# EAGLE library part LT1616 (library Neel)
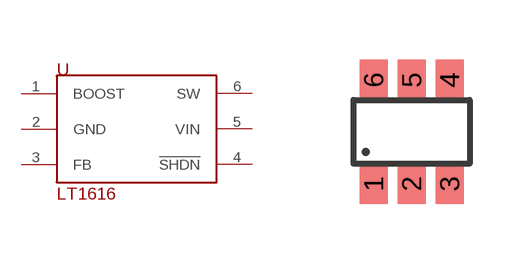
[diagram p12: symbol with the pads of SOT23-6; footprint SOT23-6]

Designator prefix -

## LT1616  [SOT23-6]
1  BOOST
2  GND
3  FB
4  !SHDN
5  VIN
6  SW

## Footprint SOT23-6 (pad centres in mm)
smd 0.7 x 1: 1 -0.95,-1.3; 2 0,-1.3; 3 0.95,-1.3; 4 0.95,1.3; 5 0,1.3; 6 -0.95,1.3